# Altium schematic symbol library Sensor_Energy.SchLib: 39 symbols
Pins are listed as number, name and electrical type; pins without a type are passive.

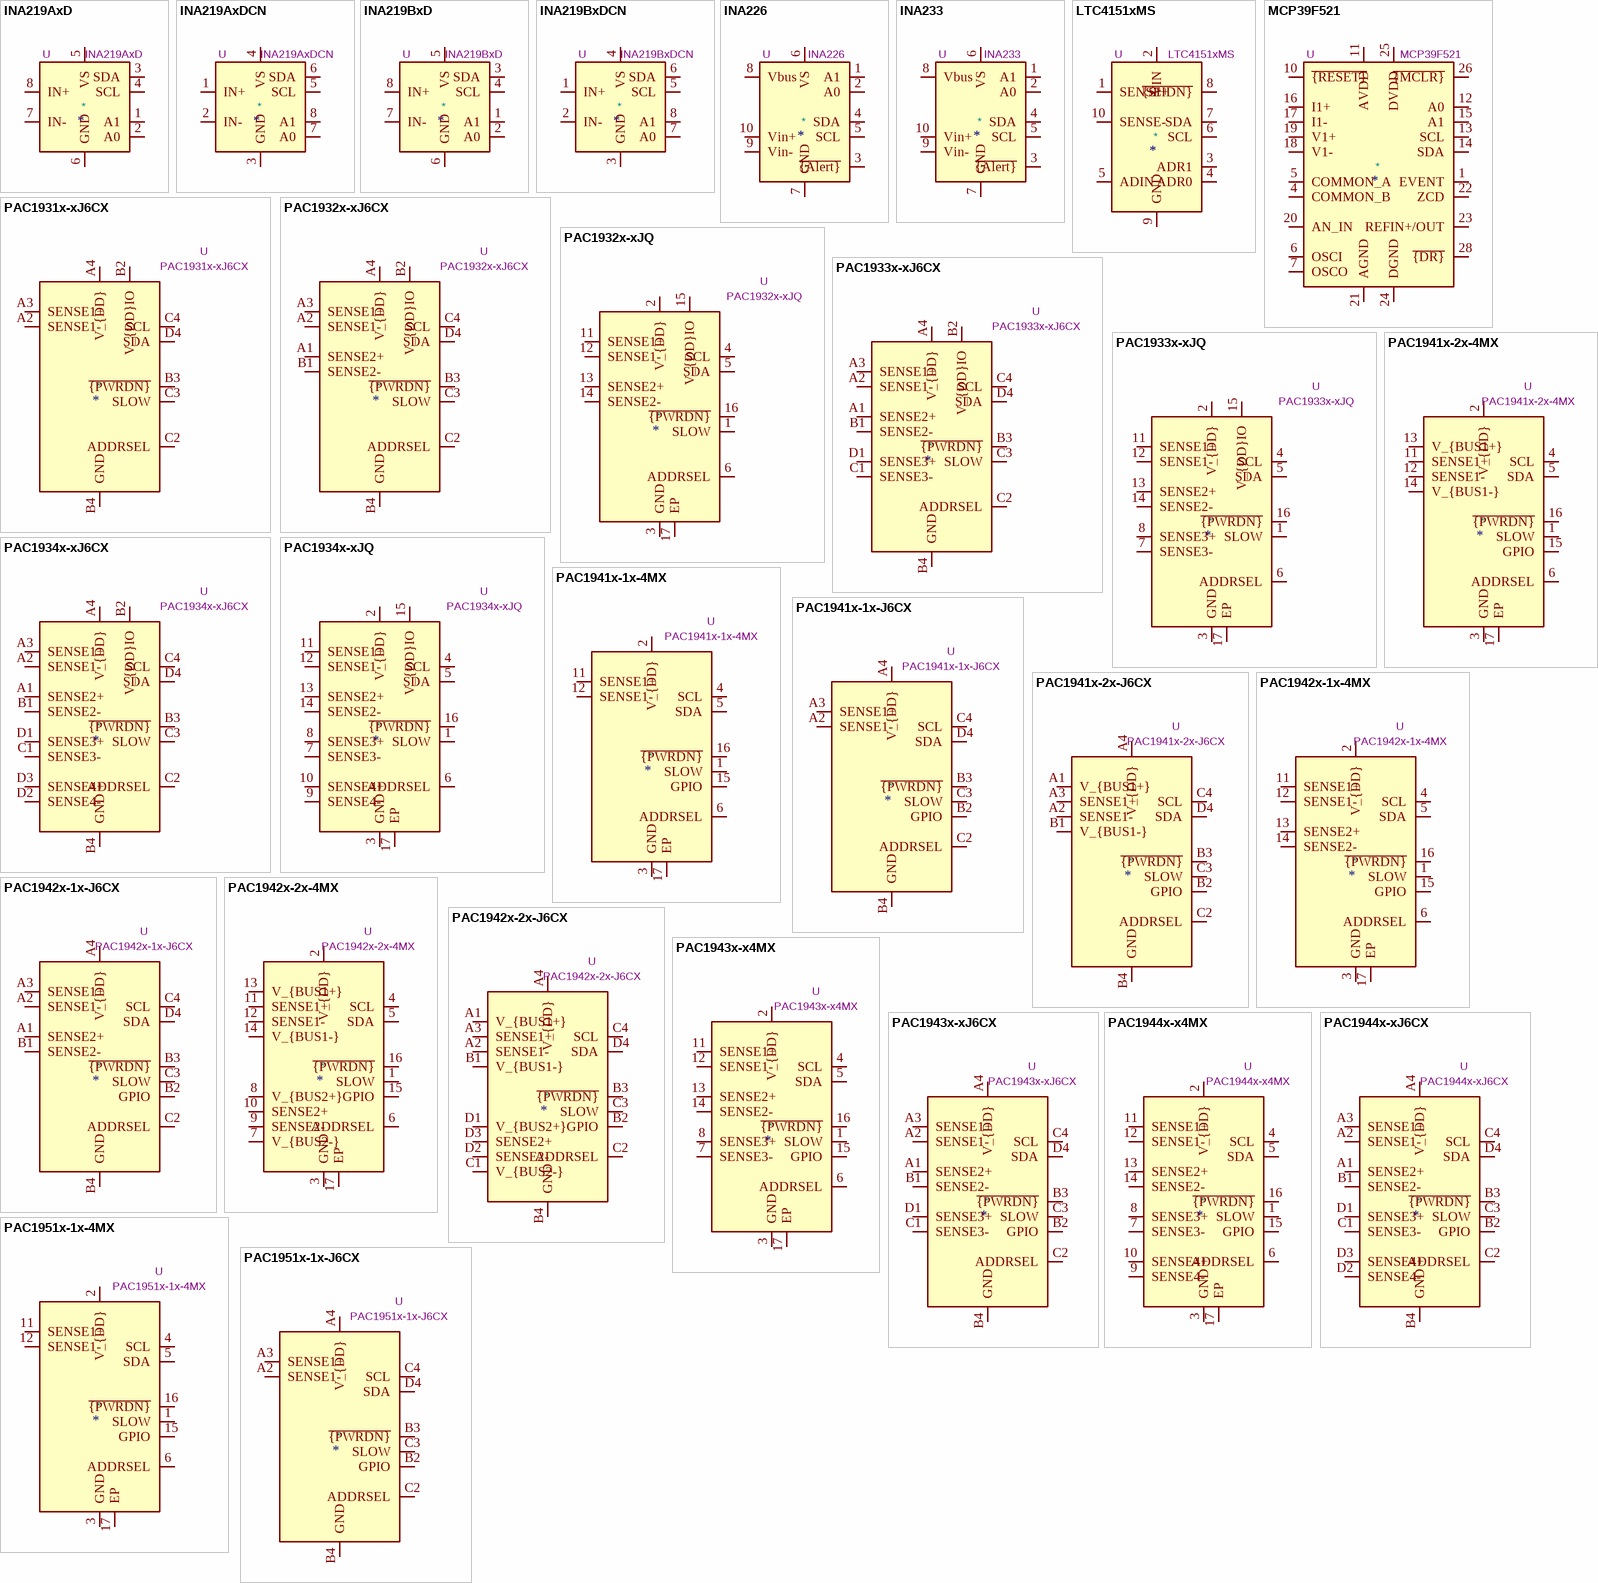
[diagram p0: symbols INA219AxD to PAC1951x-1x-J6CX]

## INA219AxD
designator *  value INA219AxD  Reference: U
ki_keywords: ADC I2C 16-Bit Oversampling Current Shunt; ki_description: Zero-Drift, Bidirectional Current/Power Monitor (0-26V) With I2C Interface, SOIC-8; ki_fp_filters: SOIC*3.9x4.9mm*P1.27mm*; Footprint: Package_SO:SOIC-8_3.9x4.9mm_P1.27mm; Datasheet: http://www.ti.com/lit/ds/symlink/ina219.pdf
pins: 1 A1, 2 A0, 3 SDA, 4 SCL, 5 VS, 6 GND, 7 IN-, 8 IN+

## INA219AxDCN
designator *  value INA219AxDCN  Reference: U
ki_keywords: ADC I2C 16-Bit Oversampling Current Shunt; ki_description: Zero-Drift, Bidirectional Current/Power Monitor (0-26V) With I2C Interface, SOT-23-8; ki_fp_filters: SOT?23*; Footprint: Package_TO_SOT_SMD:SOT-23-8; Datasheet: http://www.ti.com/lit/ds/symlink/ina219.pdf
pins: 1 IN+, 2 IN-, 3 GND, 4 VS, 5 SCL, 6 SDA, 7 A0, 8 A1

## INA219BxD
designator *  value INA219BxD  Reference: U
ki_keywords: ADC I2C 16-Bit Oversampling Current Shunt; ki_description: Zero-Drift, HighAccuracy, Bidirectional Current/Power Monitor (0-26V) With I2C Interface, SOIC-8; ki_fp_filters: SOIC*3.9x4.9mm*P1.27mm*; Footprint: Package_SO:SOIC-8_3.9x4.9mm_P1.27mm; Datasheet: http://www.ti.com/lit/ds/symlink/ina219.pdf
pins: 1 A1, 2 A0, 3 SDA, 4 SCL, 5 VS, 6 GND, 7 IN-, 8 IN+

## INA219BxDCN
designator *  value INA219BxDCN  Reference: U
ki_keywords: ADC I2C 16-Bit Oversampling Current Shunt; ki_description: Zero-Drift, HighAccuracy, Bidirectional Current/Power Monitor (0-26V) With I2C Interface, SOT-23-8; ki_fp_filters: SOT?23*; Footprint: Package_TO_SOT_SMD:SOT-23-8; Datasheet: http://www.ti.com/lit/ds/symlink/ina219.pdf
pins: 1 IN+, 2 IN-, 3 GND, 4 VS, 5 SCL, 6 SDA, 7 A0, 8 A1

## INA226
designator *  value INA226  Reference: U
ki_keywords: ADC I2C 16-Bit Oversampling Current Shunt; ki_description: High-Side or Low-Side Measurement, Bi-Directional Current and Power Monitor (0-36V) with I2C Compatible Interface, VSSOP-10; ki_fp_filters: VSSOP*3x3mm*P0.5mm*; Footprint: Package_SO:VSSOP-10_3x3mm_P0.5mm; Datasheet: http://www.ti.com/lit/ds/symlink/ina226.pdf
pins: 1 A1, 2 A0, 3 ~{{Alert}}, 4 SDA, 5 SCL, 6 VS, 7 GND, 8 Vbus, 9 Vin-, 10 Vin+

## INA233
designator *  value INA233  Reference: U
ki_keywords: ADC I2C 16-Bit Oversampling Current Shunt; ki_description: High-Side or Low-Side Measurement, Bi-Directional Current and Power Monitor (0-36V) with I2C, SMBus-, and PMBus-Compatible Interface, VSSOP-10; ki_fp_filters: VSSOP*3x3mm*P0.5mm*; Footprint: Package_SO:VSSOP-10_3x3mm_P0.5mm; Datasheet: https://www.ti.com/lit/ds/symlink/ina233.pdf
pins: 1 A1, 2 A0, 3 ~{{Alert}}, 4 SDA, 5 SCL, 6 VS, 7 GND, 8 Vbus, 9 Vin-, 10 Vin+

## LTC4151xMS
designator *  value LTC4151xMS  Reference: U
ki_keywords: I2C Current Monitor; ki_description: High Voltage I2C Current and Voltage Monitor, MSOP-10; ki_fp_filters: MSOP*3x3mm*P0.5mm*; Footprint: Package_SO:MSOP-10_3x3mm_P0.5mm; Datasheet: https://www.analog.com/media/en/technical-documentation/data-sheets/4151ff.pdf
pins: 1 SENSE+, 2 VIN, 3 ADR1, 4 ADR0, 5 ADIN, 6 SCL, 7 SDA, 8 ~{{SHDN}}, 9 GND, 10 SENSE-

## MCP39F521
designator *  value MCP39F521  Reference: U
ki_keywords: i2c power monitor; ki_description: Power Monitor, Calculation and Energy Accumulation, I2C, 16-bit, QFN-28; ki_fp_filters: QFN*1EP*5x5mm*P0.5mm*; Footprint: Package_DFN_QFN:QFN-28-1EP_5x5mm_P0.5mm_EP3.35x3.35mm; Datasheet: http://ww1.microchip.com/downloads/en/DeviceDoc/20005442A.pdf
pins: 1 EVENT, 2 NC hidden, 3 NC hidden, 4 COMMON_B, 5 COMMON_A, 6 OSCI, 7 OSCO, 8 NC hidden, 9 NC hidden, 10 ~{{RESET}}, 11 AVDD, 12 A0, 13 SCL, 14 SDA, 15 A1, 16 I1+, 17 I1-, 18 V1-, 19 V1+, 20 AN_IN, 21 AGND, 22 ZCD, 23 REFIN+/OUT, 24 DGND, 25 DVDD, 26 ~{{MCLR}}, 27 DGND hidden, 28 ~{{DR}}, 29 DGND hidden

## PAC1931x-xJ6CX
designator *  value PAC1931x-xJ6CX  Reference: U
ki_keywords: Power Monitor I2C; ki_description: One Channel High-side Power Monitor, 32V, I2C, WLCSP-16; ki_fp_filters: WLCSP*2.225x2.17mm*P0.5mm*; Footprint: Package_CSP:WLCSP-16_2.225x2.17mm_P0.5mm; Datasheet: https://ww1.microchip.com/downloads/en/DeviceDoc/PAC1931-Family-Data-Sheet-DS20005850E.pdf
pins: A1 GND hidden, A2 SENSE1-, A3 SENSE1+, A4 V_{DD}, B1 GND hidden, B2 V_{DD}IO, B3 ~{{PWRDN}}, B4 GND, C1 GND hidden, C2 ADDRSEL, C3 SLOW, C4 SCL, D1 GND hidden, D2 GND hidden, D3 GND hidden, D4 SDA

## PAC1932x-xJ6CX
designator *  value PAC1932x-xJ6CX  Reference: U
ki_keywords: Power Monitor I2C; ki_description: Two Channel High-side Power Monitor, 32V, I2C, WLCSP-16; ki_fp_filters: WLCSP*2.225x2.17mm*P0.5mm*; Footprint: Package_CSP:WLCSP-16_2.225x2.17mm_P0.5mm; Datasheet: https://ww1.microchip.com/downloads/en/DeviceDoc/PAC1931-Family-Data-Sheet-DS20005850E.pdf
pins: A1 SENSE2+, A2 SENSE1-, A3 SENSE1+, A4 V_{DD}, B1 SENSE2-, B2 V_{DD}IO, B3 ~{{PWRDN}}, B4 GND, C1 GND hidden, C2 ADDRSEL, C3 SLOW, C4 SCL, D1 GND hidden, D2 GND hidden, D3 GND hidden, D4 SDA

## PAC1932x-xJQ
designator *  value PAC1932x-xJQ  Reference: U
ki_keywords: Power Monitor I2C; ki_description: Two Channel High-side Power Monitor, 32V, I2C, UQFN-16; ki_fp_filters: UQFN*1EP*4x4mm*P0.65mm*EP2.6x2.6mm*; Footprint: Package_DFN_QFN:UQFN-16-1EP_4x4mm_P0.65mm_EP2.6x2.6mm; Datasheet: https://ww1.microchip.com/downloads/en/DeviceDoc/PAC1931-Family-Data-Sheet-DS20005850E.pdf
pins: 1 SLOW, 2 V_{DD}, 3 GND, 4 SCL, 5 SDA, 6 ADDRSEL, 7 GND hidden, 8 GND hidden, 9 GND hidden, 10 GND hidden, 11 SENSE1+, 12 SENSE1-, 13 SENSE2+, 14 SENSE2-, 15 V_{DD}IO, 16 ~{{PWRDN}}, 17 EP

## PAC1933x-xJ6CX
designator *  value PAC1933x-xJ6CX  Reference: U
ki_keywords: Power Monitor I2C; ki_description: Three Channel High-side Power Monitor, 32V, I2C, WLCSP-16; ki_fp_filters: WLCSP*2.225x2.17mm*P0.5mm*; Footprint: Package_CSP:WLCSP-16_2.225x2.17mm_P0.5mm; Datasheet: https://ww1.microchip.com/downloads/en/DeviceDoc/PAC1931-Family-Data-Sheet-DS20005850E.pdf
pins: A1 SENSE2+, A2 SENSE1-, A3 SENSE1+, A4 V_{DD}, B1 SENSE2-, B2 V_{DD}IO, B3 ~{{PWRDN}}, B4 GND, C1 SENSE3-, C2 ADDRSEL, C3 SLOW, C4 SCL, D1 SENSE3+, D2 GND hidden, D3 GND hidden, D4 SDA

## PAC1933x-xJQ
designator *  value PAC1933x-xJQ  Reference: U
ki_keywords: Power Monitor I2C; ki_description: Three Channel High-side Power Monitor, 32V, I2C, UQFN-16; ki_fp_filters: UQFN*1EP*4x4mm*P0.65mm*EP2.6x2.6mm*; Footprint: Package_DFN_QFN:UQFN-16-1EP_4x4mm_P0.65mm_EP2.6x2.6mm; Datasheet: https://ww1.microchip.com/downloads/en/DeviceDoc/PAC1931-Family-Data-Sheet-DS20005850E.pdf
pins: 1 SLOW, 2 V_{DD}, 3 GND, 4 SCL, 5 SDA, 6 ADDRSEL, 7 SENSE3-, 8 SENSE3+, 9 GND hidden, 10 GND hidden, 11 SENSE1+, 12 SENSE1-, 13 SENSE2+, 14 SENSE2-, 15 V_{DD}IO, 16 ~{{PWRDN}}, 17 EP

## PAC1934x-xJ6CX
designator *  value PAC1934x-xJ6CX  Reference: U
ki_keywords: Power Monitor I2C; ki_description: Four Channel High-side Power Monitor, 32V, I2C, WLCSP-16; ki_fp_filters: WLCSP*2.225x2.17mm*P0.5mm*; Footprint: Package_CSP:WLCSP-16_2.225x2.17mm_P0.5mm; Datasheet: https://ww1.microchip.com/downloads/en/DeviceDoc/PAC1931-Family-Data-Sheet-DS20005850E.pdf
pins: A1 SENSE2+, A2 SENSE1-, A3 SENSE1+, A4 V_{DD}, B1 SENSE2-, B2 V_{DD}IO, B3 ~{{PWRDN}}, B4 GND, C1 SENSE3-, C2 ADDRSEL, C3 SLOW, C4 SCL, D1 SENSE3+, D2 SENSE4-, D3 SENSE4+, D4 SDA

## PAC1934x-xJQ
designator *  value PAC1934x-xJQ  Reference: U
ki_keywords: Power Monitor I2C; ki_description: Four Channel High-side Power Monitor, 32V, I2C, UQFN-16; ki_fp_filters: UQFN*1EP*4x4mm*P0.65mm*EP2.6x2.6mm*; Footprint: Package_DFN_QFN:UQFN-16-1EP_4x4mm_P0.65mm_EP2.6x2.6mm; Datasheet: https://ww1.microchip.com/downloads/en/DeviceDoc/PAC1931-Family-Data-Sheet-DS20005850E.pdf
pins: 1 SLOW, 2 V_{DD}, 3 GND, 4 SCL, 5 SDA, 6 ADDRSEL, 7 SENSE3-, 8 SENSE3+, 9 SENSE4-, 10 SENSE4+, 11 SENSE1+, 12 SENSE1-, 13 SENSE2+, 14 SENSE2-, 15 V_{DD}IO, 16 ~{{PWRDN}}, 17 EP

## PAC1941x-1x-4MX
designator *  value PAC1941x-1x-4MX  Reference: U
ki_keywords: Power Monitor I2C; ki_description: One Channel High-side Power Monitor, 9V, I2C, VQFN-16; ki_fp_filters: VQFN*1EP*3x3mm*P0.5mm*EP1.1x1.1mm*; Footprint: Package_DFN_QFN:VQFN-16-1EP_3x3mm_P0.5mm_EP1.1x1.1mm; Datasheet: https://ww1.microchip.com/downloads/en/DeviceDoc/PAC194X-Data-Sheet-20006543.pdf
pins: 1 SLOW, 2 V_{DD}, 3 GND, 4 SCL, 5 SDA, 6 ADDRSEL, 7 GND hidden, 8 GND hidden, 9 GND hidden, 10 GND hidden, 11 SENSE1+, 12 SENSE1-, 13 GND hidden, 14 GND hidden, 15 GPIO, 16 ~{{PWRDN}}, 17 EP

## PAC1941x-1x-J6CX
designator *  value PAC1941x-1x-J6CX  Reference: U
ki_keywords: Power Monitor I2C; ki_description: One Channel High-side Power Monitor, 9V, I2C, WLCSP-16; ki_fp_filters: WLCSP*2.225x2.17mm*P0.5mm*; Footprint: Package_CSP:WLCSP-16_2.225x2.17mm_P0.5mm; Datasheet: https://ww1.microchip.com/downloads/en/DeviceDoc/PAC194X-Data-Sheet-20006543.pdf
pins: A1 GND hidden, A2 SENSE1-, A3 SENSE1+, A4 V_{DD}, B1 GND hidden, B2 GPIO, B3 ~{{PWRDN}}, B4 GND, C1 GND hidden, C2 ADDRSEL, C3 SLOW, C4 SCL, D1 GND hidden, D2 GND hidden, D3 GND hidden, D4 SDA

## PAC1941x-2x-4MX
designator *  value PAC1941x-2x-4MX  Reference: U
ki_keywords: Power Monitor I2C; ki_description: One Channel Low-side Power Monitor, 9V, I2C, VQFN-16; ki_fp_filters: VQFN*1EP*3x3mm*P0.5mm*EP1.1x1.1mm*; Footprint: Package_DFN_QFN:VQFN-16-1EP_3x3mm_P0.5mm_EP1.1x1.1mm; Datasheet: https://ww1.microchip.com/downloads/en/DeviceDoc/PAC194X-Data-Sheet-20006543.pdf
pins: 1 SLOW, 2 V_{DD}, 3 GND, 4 SCL, 5 SDA, 6 ADDRSEL, 7 GND hidden, 8 GND hidden, 9 GND hidden, 10 GND hidden, 11 SENSE1+, 12 SENSE1-, 13 V_{BUS1+}, 14 V_{BUS1-}, 15 GPIO, 16 ~{{PWRDN}}, 17 EP

## PAC1941x-2x-J6CX
designator *  value PAC1941x-2x-J6CX  Reference: U
ki_keywords: Power Monitor I2C; ki_description: One Channel Low-side Power Monitor, 9V, I2C, WLCSP-16; ki_fp_filters: WLCSP*2.225x2.17mm*P0.5mm*; Footprint: Package_CSP:WLCSP-16_2.225x2.17mm_P0.5mm; Datasheet: https://ww1.microchip.com/downloads/en/DeviceDoc/PAC194X-Data-Sheet-20006543.pdf
pins: A1 V_{BUS1+}, A2 SENSE1-, A3 SENSE1+, A4 V_{DD}, B1 V_{BUS1-}, B2 GPIO, B3 ~{{PWRDN}}, B4 GND, C1 GND hidden, C2 ADDRSEL, C3 SLOW, C4 SCL, D1 GND hidden, D2 GND hidden, D3 GND hidden, D4 SDA

## PAC1942x-1x-4MX
designator *  value PAC1942x-1x-4MX  Reference: U
ki_keywords: Power Monitor I2C; ki_description: Two Channel High-side Power Monitor, 9V, I2C, VQFN-16; ki_fp_filters: VQFN*1EP*3x3mm*P0.5mm*EP1.1x1.1mm*; Footprint: Package_DFN_QFN:VQFN-16-1EP_3x3mm_P0.5mm_EP1.1x1.1mm; Datasheet: https://ww1.microchip.com/downloads/en/DeviceDoc/PAC194X-Data-Sheet-20006543.pdf
pins: 1 SLOW, 2 V_{DD}, 3 GND, 4 SCL, 5 SDA, 6 ADDRSEL, 7 GND hidden, 8 GND hidden, 9 GND hidden, 10 GND hidden, 11 SENSE1+, 12 SENSE1-, 13 SENSE2+, 14 SENSE2-, 15 GPIO, 16 ~{{PWRDN}}, 17 EP

## PAC1942x-1x-J6CX
designator *  value PAC1942x-1x-J6CX  Reference: U
ki_keywords: Power Monitor I2C; ki_description: Two Channel High-side Power Monitor, 9V, I2C, WLCSP-16; ki_fp_filters: WLCSP*2.225x2.17mm*P0.5mm*; Footprint: Package_CSP:WLCSP-16_2.225x2.17mm_P0.5mm; Datasheet: https://ww1.microchip.com/downloads/en/DeviceDoc/PAC194X-Data-Sheet-20006543.pdf
pins: A1 SENSE2+, A2 SENSE1-, A3 SENSE1+, A4 V_{DD}, B1 SENSE2-, B2 GPIO, B3 ~{{PWRDN}}, B4 GND, C1 GND hidden, C2 ADDRSEL, C3 SLOW, C4 SCL, D1 GND hidden, D2 GND hidden, D3 GND hidden, D4 SDA

## PAC1942x-2x-4MX
designator *  value PAC1942x-2x-4MX  Reference: U
ki_keywords: Power Monitor I2C; ki_description: Two Channel Low-side Power Monitor, 9V, I2C, VQFN-16; ki_fp_filters: VQFN*1EP*3x3mm*P0.5mm*EP1.1x1.1mm*; Footprint: Package_DFN_QFN:VQFN-16-1EP_3x3mm_P0.5mm_EP1.1x1.1mm; Datasheet: https://ww1.microchip.com/downloads/en/DeviceDoc/PAC194X-Data-Sheet-20006543.pdf
pins: 1 SLOW, 2 V_{DD}, 3 GND, 4 SCL, 5 SDA, 6 ADDRSEL, 7 V_{BUS2-}, 8 V_{BUS2+}, 9 SENSE2-, 10 SENSE2+, 11 SENSE1+, 12 SENSE1-, 13 V_{BUS1+}, 14 V_{BUS1-}, 15 GPIO, 16 ~{{PWRDN}}, 17 EP

## PAC1942x-2x-J6CX
designator *  value PAC1942x-2x-J6CX  Reference: U
ki_keywords: Power Monitor I2C; ki_description: Two Channel Low-side Power Monitor, 9V, I2C, WLCSP-16; ki_fp_filters: WLCSP*2.225x2.17mm*P0.5mm*; Footprint: Package_CSP:WLCSP-16_2.225x2.17mm_P0.5mm; Datasheet: https://ww1.microchip.com/downloads/en/DeviceDoc/PAC194X-Data-Sheet-20006543.pdf
pins: A1 V_{BUS1+}, A2 SENSE1-, A3 SENSE1+, A4 V_{DD}, B1 V_{BUS1-}, B2 GPIO, B3 ~{{PWRDN}}, B4 GND, C1 V_{BUS2-}, C2 ADDRSEL, C3 SLOW, C4 SCL, D1 V_{BUS2+}, D2 SENSE2-, D3 SENSE2+, D4 SDA

## PAC1943x-x4MX
designator *  value PAC1943x-x4MX  Reference: U
ki_keywords: Power Monitor I2C; ki_description: Three Channel High-Side Power Monitor, 9V, I2C, VQFN-16; ki_fp_filters: VQFN*1EP*3x3mm*P0.5mm*EP1.1x1.1mm*; Footprint: Package_DFN_QFN:VQFN-16-1EP_3x3mm_P0.5mm_EP1.1x1.1mm; Datasheet: https://ww1.microchip.com/downloads/en/DeviceDoc/PAC194X-Data-Sheet-20006543.pdf
pins: 1 SLOW, 2 V_{DD}, 3 GND, 4 SCL, 5 SDA, 6 ADDRSEL, 7 SENSE3-, 8 SENSE3+, 9 GND hidden, 10 GND hidden, 11 SENSE1+, 12 SENSE1-, 13 SENSE2+, 14 SENSE2-, 15 GPIO, 16 ~{{PWRDN}}, 17 EP

## PAC1943x-xJ6CX
designator *  value PAC1943x-xJ6CX  Reference: U
ki_keywords: Power Monitor I2C; ki_description: Three Channel High-Side Power Monitor, 9V, I2C, WLCSP-16; ki_fp_filters: WLCSP*2.225x2.17mm*P0.5mm*; Footprint: Package_CSP:WLCSP-16_2.225x2.17mm_P0.5mm; Datasheet: https://ww1.microchip.com/downloads/en/DeviceDoc/PAC194X-Data-Sheet-20006543.pdf
pins: A1 SENSE2+, A2 SENSE1-, A3 SENSE1+, A4 V_{DD}, B1 SENSE2-, B2 GPIO, B3 ~{{PWRDN}}, B4 GND, C1 SENSE3-, C2 ADDRSEL, C3 SLOW, C4 SCL, D1 SENSE3+, D2 GND hidden, D3 GND hidden, D4 SDA

## PAC1944x-x4MX
designator *  value PAC1944x-x4MX  Reference: U
ki_keywords: Power Monitor I2C; ki_description: Four Channel High-side Power Monitor, 9V, I2C, VQFN-16; ki_fp_filters: VQFN*1EP*3x3mm*P0.5mm*EP1.1x1.1mm*; Footprint: Package_DFN_QFN:VQFN-16-1EP_3x3mm_P0.5mm_EP1.1x1.1mm; Datasheet: https://ww1.microchip.com/downloads/en/DeviceDoc/PAC194X-Data-Sheet-20006543.pdf
pins: 1 SLOW, 2 V_{DD}, 3 GND, 4 SCL, 5 SDA, 6 ADDRSEL, 7 SENSE3-, 8 SENSE3+, 9 SENSE4-, 10 SENSE4+, 11 SENSE1+, 12 SENSE1-, 13 SENSE2+, 14 SENSE2-, 15 GPIO, 16 ~{{PWRDN}}, 17 EP

## PAC1944x-xJ6CX
designator *  value PAC1944x-xJ6CX  Reference: U
ki_keywords: Power Monitor I2C; ki_description: Four Channel High-side Power Monitor, 9V, I2C, WLCSP-16; ki_fp_filters: WLCSP*2.225x2.17mm*P0.5mm*; Footprint: Package_CSP:WLCSP-16_2.225x2.17mm_P0.5mm; Datasheet: https://ww1.microchip.com/downloads/en/DeviceDoc/PAC194X-Data-Sheet-20006543.pdf
pins: A1 SENSE2+, A2 SENSE1-, A3 SENSE1+, A4 V_{DD}, B1 SENSE2-, B2 GPIO, B3 ~{{PWRDN}}, B4 GND, C1 SENSE3-, C2 ADDRSEL, C3 SLOW, C4 SCL, D1 SENSE3+, D2 SENSE4-, D3 SENSE4+, D4 SDA

## PAC1951x-1x-4MX
designator *  value PAC1951x-1x-4MX  Reference: U
ki_keywords: Power Monitor I2C; ki_description: One Channel High-side Power Monitor, 32V, I2C, VQFN-16; ki_fp_filters: VQFN*1EP*3x3mm*P0.5mm*EP1.1x1.1mm*; Footprint: Package_DFN_QFN:VQFN-16-1EP_3x3mm_P0.5mm_EP1.1x1.1mm; Datasheet: https://ww1.microchip.com/downloads/en/DeviceDoc/PAC195X-Data-Sheet-20006539.pdf
pins: 1 SLOW, 2 V_{DD}, 3 GND, 4 SCL, 5 SDA, 6 ADDRSEL, 7 GND hidden, 8 GND hidden, 9 GND hidden, 10 GND hidden, 11 SENSE1+, 12 SENSE1-, 13 GND hidden, 14 GND hidden, 15 GPIO, 16 ~{{PWRDN}}, 17 EP

## PAC1951x-1x-J6CX
designator *  value PAC1951x-1x-J6CX  Reference: U
ki_keywords: Power Monitor I2C; ki_description: One Channel High-side Power Monitor, 32V, I2C, WLCSP-16; ki_fp_filters: WLCSP*2.225x2.17mm*P0.5mm*; Footprint: Package_CSP:WLCSP-16_2.225x2.17mm_P0.5mm; Datasheet: https://ww1.microchip.com/downloads/en/DeviceDoc/PAC195X-Data-Sheet-20006539.pdf
pins: A1 GND hidden, A2 SENSE1-, A3 SENSE1+, A4 V_{DD}, B1 GND hidden, B2 GPIO, B3 ~{{PWRDN}}, B4 GND, C1 GND hidden, C2 ADDRSEL, C3 SLOW, C4 SCL, D1 GND hidden, D2 GND hidden, D3 GND hidden, D4 SDA

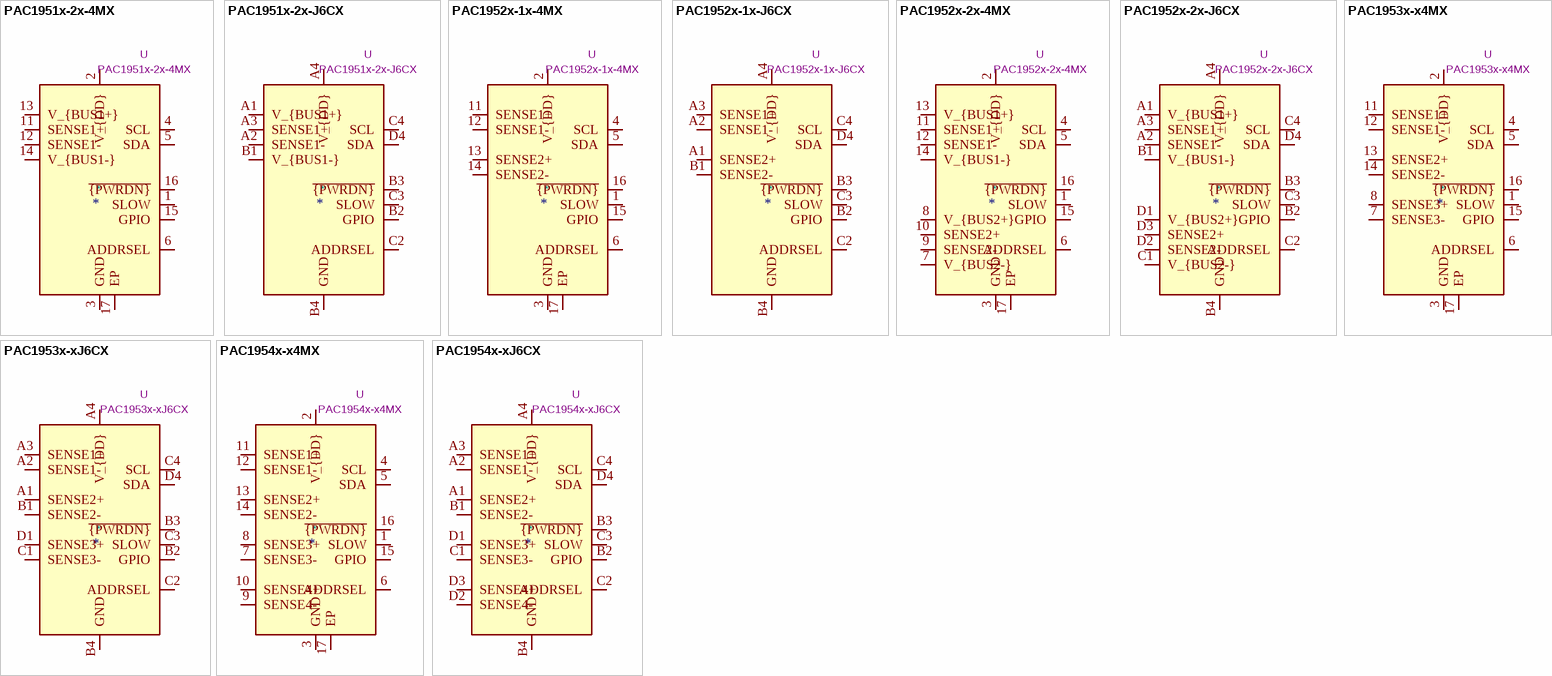
[diagram p1: symbols PAC1951x-2x-4MX to PAC1954x-xJ6CX]

## PAC1951x-2x-4MX
designator *  value PAC1951x-2x-4MX  Reference: U
ki_keywords: Power Monitor I2C; ki_description: One Channel Low-side Power Monitor, 32V, I2C, VQFN-16; ki_fp_filters: VQFN*1EP*3x3mm*P0.5mm*EP1.1x1.1mm*; Footprint: Package_DFN_QFN:VQFN-16-1EP_3x3mm_P0.5mm_EP1.1x1.1mm; Datasheet: https://ww1.microchip.com/downloads/en/DeviceDoc/PAC195X-Data-Sheet-20006539.pdf
pins: 1 SLOW, 2 V_{DD}, 3 GND, 4 SCL, 5 SDA, 6 ADDRSEL, 7 GND hidden, 8 GND hidden, 9 GND hidden, 10 GND hidden, 11 SENSE1+, 12 SENSE1-, 13 V_{BUS1+}, 14 V_{BUS1-}, 15 GPIO, 16 ~{{PWRDN}}, 17 EP

## PAC1951x-2x-J6CX
designator *  value PAC1951x-2x-J6CX  Reference: U
ki_keywords: Power Monitor I2C; ki_description: One Channel Low-side Power Monitor, 32V, I2C, WLCSP-16; ki_fp_filters: WLCSP*2.225x2.17mm*P0.5mm*; Footprint: Package_CSP:WLCSP-16_2.225x2.17mm_P0.5mm; Datasheet: https://ww1.microchip.com/downloads/en/DeviceDoc/PAC195X-Data-Sheet-20006539.pdf
pins: A1 V_{BUS1+}, A2 SENSE1-, A3 SENSE1+, A4 V_{DD}, B1 V_{BUS1-}, B2 GPIO, B3 ~{{PWRDN}}, B4 GND, C1 GND hidden, C2 ADDRSEL, C3 SLOW, C4 SCL, D1 GND hidden, D2 GND hidden, D3 GND hidden, D4 SDA

## PAC1952x-1x-4MX
designator *  value PAC1952x-1x-4MX  Reference: U
ki_keywords: Power Monitor I2C; ki_description: Two Channel High-side Power Monitor, 32V, I2C, VQFN-16; ki_fp_filters: VQFN*1EP*3x3mm*P0.5mm*EP1.1x1.1mm*; Footprint: Package_DFN_QFN:VQFN-16-1EP_3x3mm_P0.5mm_EP1.1x1.1mm; Datasheet: https://ww1.microchip.com/downloads/en/DeviceDoc/PAC195X-Data-Sheet-20006539.pdf
pins: 1 SLOW, 2 V_{DD}, 3 GND, 4 SCL, 5 SDA, 6 ADDRSEL, 7 GND hidden, 8 GND hidden, 9 GND hidden, 10 GND hidden, 11 SENSE1+, 12 SENSE1-, 13 SENSE2+, 14 SENSE2-, 15 GPIO, 16 ~{{PWRDN}}, 17 EP

## PAC1952x-1x-J6CX
designator *  value PAC1952x-1x-J6CX  Reference: U
ki_keywords: Power Monitor I2C; ki_description: Two Channel High-side Power Monitor, 32V, I2C, WLCSP-16; ki_fp_filters: WLCSP*2.225x2.17mm*P0.5mm*; Footprint: Package_CSP:WLCSP-16_2.225x2.17mm_P0.5mm; Datasheet: https://ww1.microchip.com/downloads/en/DeviceDoc/PAC195X-Data-Sheet-20006539.pdf
pins: A1 SENSE2+, A2 SENSE1-, A3 SENSE1+, A4 V_{DD}, B1 SENSE2-, B2 GPIO, B3 ~{{PWRDN}}, B4 GND, C1 GND hidden, C2 ADDRSEL, C3 SLOW, C4 SCL, D1 GND hidden, D2 GND hidden, D3 GND hidden, D4 SDA

## PAC1952x-2x-4MX
designator *  value PAC1952x-2x-4MX  Reference: U
ki_keywords: Power Monitor I2C; ki_description: Two Channel Low-side Power Monitor, 32V, I2C, VQFN-16; ki_fp_filters: VQFN*1EP*3x3mm*P0.5mm*EP1.1x1.1mm*; Footprint: Package_DFN_QFN:VQFN-16-1EP_3x3mm_P0.5mm_EP1.1x1.1mm; Datasheet: https://ww1.microchip.com/downloads/en/DeviceDoc/PAC195X-Data-Sheet-20006539.pdf
pins: 1 SLOW, 2 V_{DD}, 3 GND, 4 SCL, 5 SDA, 6 ADDRSEL, 7 V_{BUS2-}, 8 V_{BUS2+}, 9 SENSE2-, 10 SENSE2+, 11 SENSE1+, 12 SENSE1-, 13 V_{BUS1+}, 14 V_{BUS1-}, 15 GPIO, 16 ~{{PWRDN}}, 17 EP

## PAC1952x-2x-J6CX
designator *  value PAC1952x-2x-J6CX  Reference: U
ki_keywords: Power Monitor I2C; ki_description: Two Channel Low-side Power Monitor, 32V, I2C, WLCSP-16; ki_fp_filters: WLCSP*2.225x2.17mm*P0.5mm*; Footprint: Package_CSP:WLCSP-16_2.225x2.17mm_P0.5mm; Datasheet: https://ww1.microchip.com/downloads/en/DeviceDoc/PAC195X-Data-Sheet-20006539.pdf
pins: A1 V_{BUS1+}, A2 SENSE1-, A3 SENSE1+, A4 V_{DD}, B1 V_{BUS1-}, B2 GPIO, B3 ~{{PWRDN}}, B4 GND, C1 V_{BUS2-}, C2 ADDRSEL, C3 SLOW, C4 SCL, D1 V_{BUS2+}, D2 SENSE2-, D3 SENSE2+, D4 SDA

## PAC1953x-x4MX
designator *  value PAC1953x-x4MX  Reference: U
ki_keywords: Power Monitor I2C; ki_description: Three Channel High-Side Power Monitor, 32V, I2C, VQFN-16; ki_fp_filters: VQFN*1EP*3x3mm*P0.5mm*EP1.1x1.1mm*; Footprint: Package_DFN_QFN:VQFN-16-1EP_3x3mm_P0.5mm_EP1.1x1.1mm; Datasheet: https://ww1.microchip.com/downloads/en/DeviceDoc/PAC195X-Data-Sheet-20006539.pdf
pins: 1 SLOW, 2 V_{DD}, 3 GND, 4 SCL, 5 SDA, 6 ADDRSEL, 7 SENSE3-, 8 SENSE3+, 9 GND hidden, 10 GND hidden, 11 SENSE1+, 12 SENSE1-, 13 SENSE2+, 14 SENSE2-, 15 GPIO, 16 ~{{PWRDN}}, 17 EP

## PAC1953x-xJ6CX
designator *  value PAC1953x-xJ6CX  Reference: U
ki_keywords: Power Monitor I2C; ki_description: Three Channel High-Side Power Monitor, 32V, I2C, WLCSP-16; ki_fp_filters: WLCSP*2.225x2.17mm*P0.5mm*; Footprint: Package_CSP:WLCSP-16_2.225x2.17mm_P0.5mm; Datasheet: https://ww1.microchip.com/downloads/en/DeviceDoc/PAC195X-Data-Sheet-20006539.pdf
pins: A1 SENSE2+, A2 SENSE1-, A3 SENSE1+, A4 V_{DD}, B1 SENSE2-, B2 GPIO, B3 ~{{PWRDN}}, B4 GND, C1 SENSE3-, C2 ADDRSEL, C3 SLOW, C4 SCL, D1 SENSE3+, D2 GND hidden, D3 GND hidden, D4 SDA

## PAC1954x-x4MX
designator *  value PAC1954x-x4MX  Reference: U
ki_keywords: Power Monitor I2C; ki_description: Four Channel High-side Power Monitor, 32V, I2C, VQFN-16; ki_fp_filters: VQFN*1EP*3x3mm*P0.5mm*EP1.1x1.1mm*; Footprint: Package_DFN_QFN:VQFN-16-1EP_3x3mm_P0.5mm_EP1.1x1.1mm; Datasheet: https://ww1.microchip.com/downloads/en/DeviceDoc/PAC195X-Data-Sheet-20006539.pdf
pins: 1 SLOW, 2 V_{DD}, 3 GND, 4 SCL, 5 SDA, 6 ADDRSEL, 7 SENSE3-, 8 SENSE3+, 9 SENSE4-, 10 SENSE4+, 11 SENSE1+, 12 SENSE1-, 13 SENSE2+, 14 SENSE2-, 15 GPIO, 16 ~{{PWRDN}}, 17 EP

## PAC1954x-xJ6CX
designator *  value PAC1954x-xJ6CX  Reference: U
ki_keywords: Power Monitor I2C; ki_description: Four Channel High-side Power Monitor, 32V, I2C, WLCSP-16; ki_fp_filters: WLCSP*2.225x2.17mm*P0.5mm*; Footprint: Package_CSP:WLCSP-16_2.225x2.17mm_P0.5mm; Datasheet: https://ww1.microchip.com/downloads/en/DeviceDoc/PAC195X-Data-Sheet-20006539.pdf
pins: A1 SENSE2+, A2 SENSE1-, A3 SENSE1+, A4 V_{DD}, B1 SENSE2-, B2 GPIO, B3 ~{{PWRDN}}, B4 GND, C1 SENSE3-, C2 ADDRSEL, C3 SLOW, C4 SCL, D1 SENSE3+, D2 SENSE4-, D3 SENSE4+, D4 SDA